# EAGLE library part MH-ET_ESP32_D1_MINI (library MH-ET_ESP32_D1_MINI)
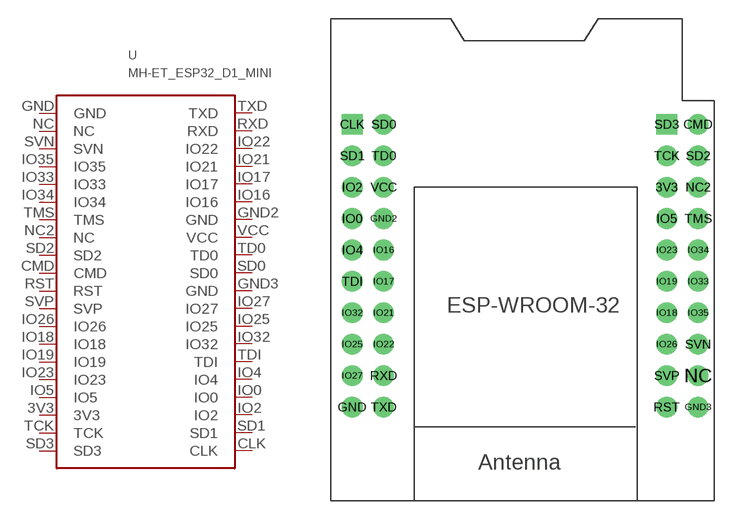
[diagram p0: symbol with the pads of MH-ET_ESP32_D1_MINI; footprint MH-ET_ESP32_D1_MINI]

Designator prefix -

## MH-ET_ESP32_D1_MINI  [MH-ET_ESP32_D1_MINI]
3V3  3V3
CLK  CLK
CMD  CMD
GND  GND
GND2  GND
GND3  GND
IO0  IO0
IO2  IO2
IO4  IO4
IO5  IO5
IO16  IO16
IO17  IO17
IO18  IO18
IO19  IO19
IO21  IO21
IO22  IO22
IO23  IO23
IO25  IO25
IO26  IO26
IO27  IO27
IO32  IO32
IO33  IO33
IO34  IO34
IO35  IO35
NC  NC
NC2  NC
RST  RST
RXD  RXD
SD0  SD0
SD1  SD1
SD2  SD2
SD3  SD3
SVN  SVN
SVP  SVP
TCK  TCK
TD0  TD0
TDI  TDI
TMS  TMS
TXD  TXD
VCC  VCC

## Footprint MH-ET_ESP32_D1_MINI (pad centres in mm)
drill 1.11 pad 1.665: 3V3 25.4,-5.08; CMD 27.94,0; GND 0,-22.86; GND2 2.54,-7.62; GND3 27.94,-22.86; IO0 0,-7.62; IO2 0,-5.08; IO4 0,-10.16; IO5 25.4,-7.62; IO16 2.54,-10.16; IO17 2.54,-12.7; IO18 25.4,-15.24; IO19 25.4,-12.7; IO21 2.54,-15.24; IO22 2.54,-17.78; IO23 25.4,-10.16; IO25 0,-17.78; IO26 25.4,-17.78; IO27 0,-20.32; IO32 0,-15.24; IO33 27.94,-12.7; IO34 27.94,-10.16; IO35 27.94,-15.24; NC 27.94,-20.32; NC2 27.94,-5.08; RST 25.4,-22.86; RXD 2.54,-20.32; SD0 2.54,0; SD1 0,-2.54; SD2 27.94,-2.54; SVN 27.94,-17.78; SVP 25.4,-20.32; TCK 25.4,-2.54; TD0 2.54,-2.54; TDI 0,-12.7; TMS 27.94,-7.62; TXD 2.54,-22.86; VCC 2.54,-5.08
drill 1.11 pad 1.665 square: CLK 0,0; SD3 25.4,0